# EAGLE library part M05X2 (library Connectors)
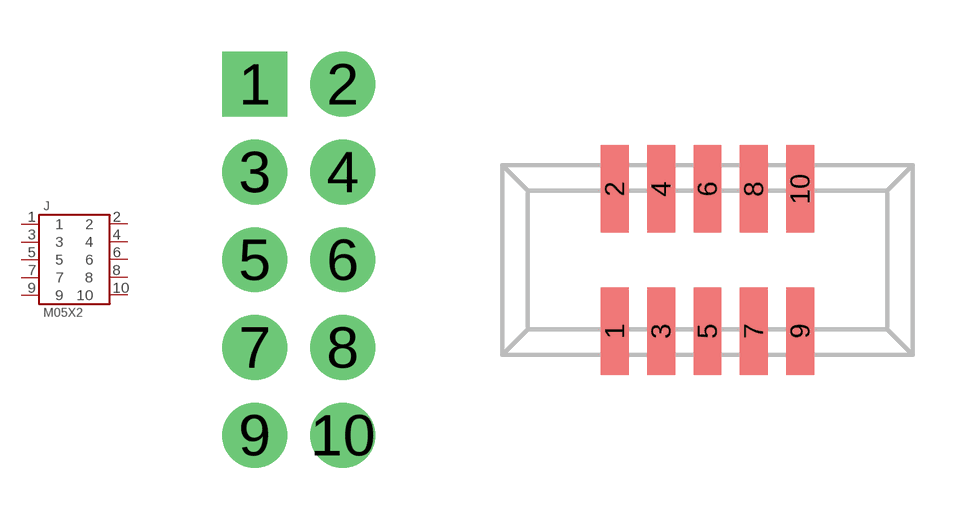
[diagram p4: symbol with the pads of M05X2; footprints M05X2, M05X2-50MIL_SMD]

Designator prefix J

## M05X2  [M05X2]
1  1
2  2
3  3
4  4
5  5
6  6
7  7
8  8
9  9
10  10

## M05X2-50MIL_SMD-H  [M05X2-50MIL_SMD]
Pads as for M05X2

## M05X2-50MIL_SMD2  [3220-10-0300-00]
Pads as for M05X2

## M05X2-SMD  [M05X2_SMD]
Pads as for M05X2

## M05X2-100MIL-H  [M05X2-100MIL_SHROUD]
Pads as for M05X2

## M05X2-MEZ-H  [BM10B(0.8)-10DP-0.4V(51)]
Pads as for M05X2

## M05X2-MEZ-R  [BM10NB(0.6)-10DS-0.4V(51)]
Pads as for M05X2

## M05X2-50MIL_SHROUD  [M05X2-50MIL-SHROUD]
Pads as for M05X2

## Footprint M05X2 (pad centres in mm)
drill 1.016 pad 1.88 square: 1 -1.27,5.08
drill 1.016 pad 1.88: 2 1.27,5.08; 3 -1.27,2.54; 4 1.27,2.54; 5 -1.27,0; 6 1.27,0; 7 -1.27,-2.54; 8 1.27,-2.54; 9 -1.27,-5.08; 10 1.27,-5.08

## Footprint M05X2-50MIL_SMD (pad centres in mm)
smd 0.76 x 2.4: 1 -2.54,-1.95; 2 -2.54,1.95; 3 -1.27,-1.95; 4 -1.27,1.95; 5 0,-1.95; 6 0,1.95; 7 1.27,-1.95; 8 1.27,1.95; 9 2.54,-1.95; 10 2.54,1.95

## Footprint 3220-10-0300-00 (pad centres in mm)
smd 0.76 x 2.4: 1 2.54,1.95; 2 2.54,-1.95; 3 1.27,1.95; 4 1.27,-1.95; 5 0,1.95; 6 0,-1.95; 7 -1.27,1.95; 8 -1.27,-1.95; 9 -2.54,1.95; 10 -2.54,-1.95

## Footprint M05X2_SMD (pad centres in mm)
smd 1.27 x 2.54: 1 -5.08,-2.73; 2 -5.08,2.73; 3 -2.54,-2.73; 4 -2.54,2.73; 5 0,-2.73; 6 0,2.73; 7 2.54,-2.73; 8 2.54,2.73; 9 5.08,-2.73; 10 5.08,2.73

## Footprint M05X2-100MIL_SHROUD (pad centres in mm)
drill 1.016 pad 1.88 square: 1 -5.08,-1.27
drill 1.016 pad 1.88: 2 -5.08,1.27; 3 -2.54,-1.27; 4 -2.54,1.27; 5 0,-1.27; 6 0,1.27; 7 2.54,-1.27; 8 2.54,1.27; 9 5.08,-1.27; 10 5.08,1.27

## Footprint BM10B(0.8)-10DP-0.4V(51) (pad centres in mm)
smd 0.23 x 0.74: 1 0.8,1.01; 2 0.8,-1.01; 3 0.4,1.01; 4 0.4,-1.01; 5 0,1.01; 6 0,-1.01; 7 -0.4,1.01; 8 -0.4,-1.01; 9 -0.8,1.01; 10 -0.8,-1.01
smd 0.44 x 0.59: P$1 1.37,0.68; P$2 1.37,-0.68; P$3 -1.37,0.68; P$4 -1.37,-0.68

## Footprint BM10NB(0.6)-10DS-0.4V(51) (pad centres in mm)
smd 0.23 x 0.47: 1 -0.8,1.405; 2 -0.8,-1.405; 3 -0.4,1.405; 4 -0.4,-1.405; 5 0,1.405; 6 0,-1.405; 7 0.4,1.405; 8 0.4,-1.405; 9 0.8,1.405; 10 0.8,-1.405
smd 0.92 x 0.55: P$1 -1.55,1.445; P$2 -1.55,-1.445; P$3 1.55,1.445; P$4 1.55,-1.445

## Footprint M05X2-50MIL-SHROUD (pad centres in mm)
drill 0.7 pad 1 square: 1 -2.54,-0.635
drill 0.7 pad 1: 2 -2.54,0.635; 3 -1.27,-0.635; 4 -1.27,0.635; 5 0,-0.635; 6 0,0.635; 7 1.27,-0.635; 8 1.27,0.635; 9 2.54,-0.635; 10 2.54,0.635